# Altium schematic symbol library SCH - POWER - LINEAR VREG - TI TLV7021DPW.SchLib: 1 symbol
Pins are listed as number, name and electrical type; pins without a type are passive.

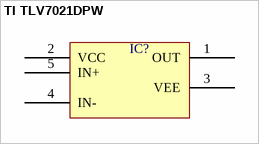
[diagram p0: symbol TI TLV7021DPW]

## TI TLV7021DPW
designator IC?  (value not drawn)
pins: 1 OUT, 2 VCC, 3 VEE, 4 IN-, 5 IN+